# Altium footprint library RF_Bluetooth.PcbLib: 2 footprints
Each footprint in its own frame and in the unit in brackets; x right, y up, seen from the top. Pads: shape width x height; smd on the part's side, far side on the other; paste and mask are expansions set on the pad; w line width, h text height; cw(c..) or ccw(c..) is an arc to the next point about the centre after c.
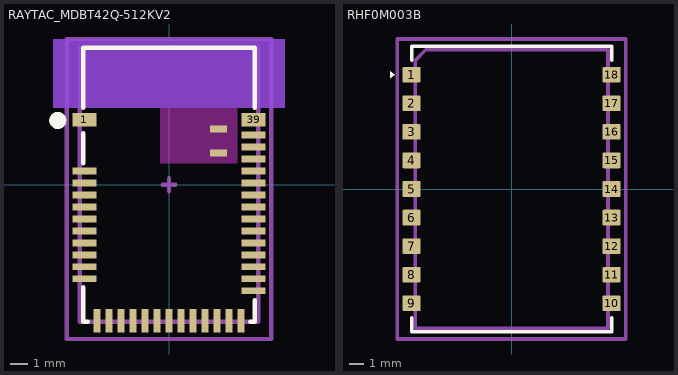
[diagram p0: the footprints below, top view; thin cyan lines are the x and y axes]

## RAYTAC_MDBT42Q-512KV2 [mm]
pads (41):
  rect 1.4x0.8 smd: 1(-4.95,3.8) 39(4.95,3.8)
  rect 1.4x0.4 smd: 2(-4.95,0.8) 3(-4.95,0.1) 4(-4.95,-0.6) 5(-4.95,-1.3) 6(-4.95,-2) 7(-4.95,-2.7) 8(-4.95,-3.4) 9(-4.95,-4.1) 10(-4.95,-4.8) 11(-4.95,-5.5) 25(4.95,-6.2) 26(4.95,-5.5) 27(4.95,-4.8) 28(4.95,-4.1) 29(4.95,-3.4) 30(4.95,-2.7) 31(4.95,-2) 32(4.95,-1.3) 33(4.95,-0.6) 34(4.95,0.1) 35(4.95,0.8) 36(4.95,1.5) 37(4.95,2.2) 38(4.95,2.9)
  rect 0.4x1.4 smd: 12(-4.2,-7.95) 13(-3.5,-7.95) 14(-2.8,-7.95) 15(-2.1,-7.95) 16(-1.4,-7.95) 17(-0.7,-7.95) 18(0,-7.95) 19(0.7,-7.95) 20(1.4,-7.95) 21(2.1,-7.95) 22(2.8,-7.95) 23(3.5,-7.95) 24(4.2,-7.95)
  rect 1x0.4 smd: 40(2.9,3.25) 41(2.9,1.85)
Top Layer keep-out:
  region: -6.75,4.5 -6.75,8.5 6.75,8.5 6.75,4.5
  region: -0.5,1.25 -0.5,4.5 4,4.5 4,1.25
Bottom Layer keep-out:
  region: -6.75,4.5 -6.75,8.5 6.75,8.5 6.75,4.5
Top Overlay:
  circle w0.5: c-6.5,3.75 r0.25
  lines w0.254: -5,-6 -5,-8 -4.75,-8 ; -5,1.25 -5,3 ; -5,4.5 -5,8 5,8 5,4.5 ; 4.75,-8 5,-8 5,-6.75
Top Component Center:
  lines w0.254: -0.381,0 0.381,0 ; 0,-0.381 0,0.381
Bottom Component Center:
  lines w0.127: -5,8 5,8
  text "Toplayer no ground pad" at -0.29,1.25 h0.4
  text "No ground pad" at -3.61,5.68 h1.24
Top Assembly:
  lines w0.254: -5.207,-8.001 5.207,-8.001 5.207,8.001 -5.207,8.001 -5.207,1.016 -5.207,-8.001
Top Courtyard:
  lines w0.254: -5.969,-9.017 -5.969,8.509 5.969,8.509 5.969,-9.017 -5.969,-9.017
Bottom Courtyard:
  lines w0.127: -5,-6.02 -5,-8 -4.72,-8 ; -5,1.32 -5,3.08 ; -5,4.52 -5,8 5,8 5,4.52 ; 4.72,-8 5,-8 5,-6.72
Top Designator:
  text ".Designator" at -7.618,-0.508 h1.52
3D body "Raytec_MDBT42.STEP": height 1.8, standoff 0, extent -4.351,-7.16 4.449,6.64

## RHF0M003B [mm]
pads (18):
  rrect15% 1.27x1.1 smd: 1(-7,8) 2(-7,6) 3(-7,4) 4(-7,2) 5(-7,0) 6(-7,-2) 7(-7,-4) 8(-7,-6) 9(-7,-8) 10(7,-8) 11(7,-6) 12(7,-4) 13(7,-2) 14(7,0) 15(7,2) 16(7,4) 17(7,6) 18(7,8)
Top Overlay:
  region: -8.17,8 -8.5,7.76 -8.5,8.24
  lines w0.254: -7,-9 -7,-10 7,-10 7,-9 ; -7,9 -7,10 7,10 7,9
Top Assembly:
  lines w0.254: -6.75,-9.75 -6.75,9 -6,9.75 6.75,9.75 6.75,-9.75 -6.75,-9.75
  text "'.Designator'" at -4.047,-3.34 h1
Top Courtyard:
  lines w0.254: -8,-10.5 -8,10.5 8,10.5 8,-10.5 -8,-10.5